# Altium schematic symbol library Optical.SchLib: 2 symbols
Pins are listed as number, name and electrical type; pins without a type are passive.

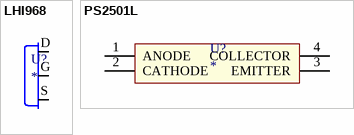
[diagram p0: symbols LHI968 to PS2501L]

## LHI968
designator U?
IR DETECTOR, HIGH END PYRO, 5MM, TO-5, THRU HOLE, 12V, TO-5; Manufacturer: Excelitas; Manufacturer Part Number: LHI968; Min Supply Voltage: 2V; Max Supply Voltage: 10V; Number of Elements: 2; Viewing Angle: 100°; Supplier 1: Digi-Key; Supplier Part Number 1: LHI 968-ND; Stock: 0; Mount: Through Hole; Case/Package: TO-5; Number of Pins: 3; Min Operating Temperature: -40°C; Max Operating Temperature: 85°C; REACH SVHC: Unknown; ComponentLink1URL: https://datasheet.ciiva.com/1300/dts-lhi968-pyd1398-1300034.pdf; ComponentLink1Description: https://datasheet.ciiva.com/1300/dts-lhi968-pyd1398-1300034.pdf; ComponentLink2URL: https://datasheet.ciiva.com/14091/av631546-e-14091212.pdf; ComponentLink2Description: https://datasheet.ciiva.com/14091/av631546-e-14091212.pdf; ComponentLink3URL: https://datasheet.ciiva.com/1314/dts-lhi968-pyd1398-1314628.pdf; ComponentLink3Description: https://datasheet.ciiva.com/1314/dts-lhi968-pyd1398-1314628.pdf; ComponentLink4URL: https://datasheet.ciiva.com/1295/dts-lhi968-pyd1398-1295143.pdf; ComponentLink4Description: https://datasheet.ciiva.com/1295/dts-lhi968-pyd1398-1295143.pdf; ComponentLink5URL: https://datasheet.ciiva.com/22628/1272111-22628188.pdf; ComponentLink5Description: https://datasheet.ciiva.com/22628/1272111-22628188.pdf
footprint TO5
pins: D 1, G 2, S 3

## PS2501L
designator U?
footprint SOP254P960X380
pins: 1 ANODE, 2 CATHODE, 3 EMITTER, 4 COLLECTOR